# EAGLE library part EXTRACORE (library ExtraCore)
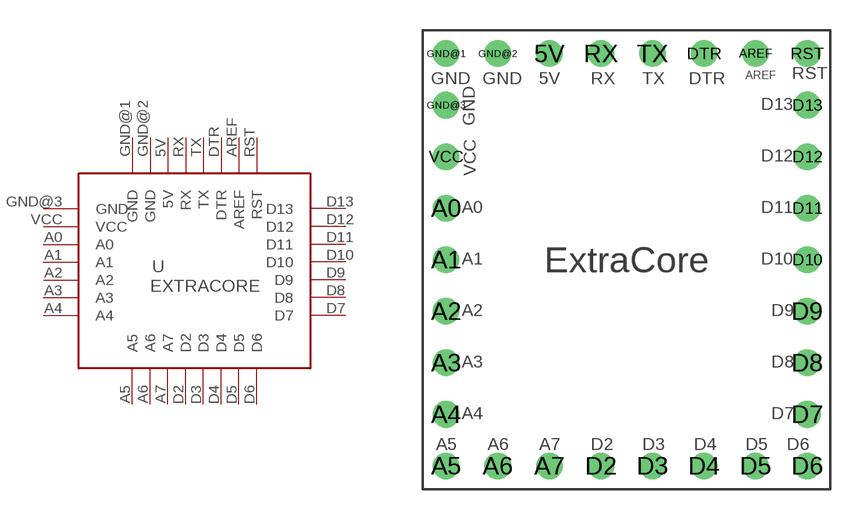
[diagram p0: symbol with the pads of EXTRACORE; footprint EXTRACORE]

Designator prefix -

## EXTRACORE  [EXTRACORE]
5V  5V  pwr
A0  A0
A1  A1
A2  A2
A3  A3
A4  A4
A5  A5
A6  A6
A7  A7
AREF  AREF
D2  D2
D3  D3
D4  D4
D5  D5
D6  D6
D7  D7
D8  D8
D9  D9
D10  D10
D11  D11
D12  D12
D13  D13
DTR  DTR
GND@1  GND  pwr
GND@2  GND  pwr
GND@3  GND  pwr
RST  RST
RX  RX
TX  TX
VCC  VCC  pwr

## Footprint EXTRACORE (pad centres in mm)
drill 0.8: 5V -3.81,10.16; A0 -8.89,2.54; A1 -8.89,0; A2 -8.89,-2.54; A3 -8.89,-5.08; A4 -8.89,-7.62; A5 -8.89,-10.16; A6 -6.35,-10.16; A7 -3.81,-10.16; AREF 6.35,10.16; D2 -1.27,-10.16; D3 1.27,-10.16; D4 3.81,-10.16; D5 6.35,-10.16; D6 8.89,-10.16; D7 8.89,-7.62; D8 8.89,-5.08; D9 8.89,-2.54; D10 8.89,0; D11 8.89,2.54; D12 8.89,5.08; D13 8.89,7.62; DTR 3.81,10.16; GND@1 -8.89,10.16; GND@2 -6.35,10.16; GND@3 -8.89,7.62; RST 8.89,10.16; RX -1.27,10.16; TX 1.27,10.16; VCC -8.89,5.08